# Altium schematic symbol library CAP_GRJ188C70J475KE11D.SchLib: 1 symbol
Pins are listed as number, name and electrical type; pins without a type are passive.

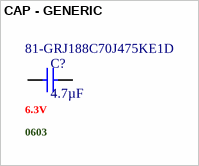
[diagram p0: symbol CAP - GENERIC]

## CAP - GENERIC
designator C?, comment 4.7µF  .Case/Package: 0603  .Voltage Rating (DC): 6.3V  Supplier Part Number 1: 81-GRJ188C70J475KE1D
GRJ Series 0603 6.3 V 4.7 uF ±10% X7S SMT Multilayer Ceramic Capacitor; Manufacturer: Murata; Manufacturer Part Number: GRJ188C70J475KE11D; Manufacturer Lifecycle Status: IN PRODUCTION; Supplier 1: Mouser; RoHS: Compliant; Category: Ceramic Capacitors; Stock 1: 17220; Pricing 1: 1=0,23, 10=0,096, 50=0,096, 100=0,073, 1000=0,054, 10000=0,042 (USD); Capacitance: 4.7µF; Case/Package: 0603; Case Code (Imperial): 0603; Case Code (Metric): 1608; Dielectric: X7S; Dielectric Material: Ceramic; Features: Soft Termination; Height: 800µm; Length: 1.6mm; Lifecycle Status: Production; Max Operating Temperature: 125°C; Min Operating Temperature: -55°C; Mount: Surface Mount; Number of Terminals: 2; REACH SVHC: Yes; Schedule B: 8532240020, 8532240020|8532240020, 8532240020|8532240020|8532240020, 8532240020|8532240020|8532240020|8532240020; Thickness: 800µm; Tolerance: 10%; Voltage Rating: 6.3V; Voltage Rating (DC): 6.3V; Width: 800µm; ComponentLink1URL: https://datasheet.octopart.com:443/GRJ188C70J475KE11D-Murata-datasheet-165579666.pdf?src-supplier=TME; ComponentLink1Description: https://datasheet.octopart.com:443/GRJ188C70J475KE11D-Murata-datasheet-165579666.pdf?src-supplier=TME; ComponentLink2URL: https://datasheet.octopart.com:443/GRJ188C70J475KE11D-Murata-datasheet-140671071.pdf?src-supplier=Ciiva; ComponentLink2Description: https://datasheet.octopart.com:443/GRJ188C70J475KE11D-Murata-datasheet-140671071.pdf?src-supplier=Ciiva; ComponentLink3URL: https://datasheet.octopart.com:443/GRJ188C70J475KE11D-Murata-datasheet-140671041.pdf?src-supplier=Ciiva; ComponentLink3Description: https://datasheet.octopart.com:443/GRJ188C70J475KE11D-Murata-datasheet-140671041.pdf?src-supplier=Ciiva; ComponentLink4URL: https://datasheet.octopart.com:443/GRJ188C70J475KE11D-Murata-datasheet-138730632.pdf?src-supplier=Ciiva; ComponentLink4Description: https://datasheet.octopart.com:443/GRJ188C70J475KE11D-Murata-datasheet-138730632.pdf?src-supplier=Ciiva; ComponentLink5URL: https://datasheet.octopart.com:443/GRJ188C70J475KE11D-Murata-datasheet-82944415.pdf?src-supplier=Future+Electronics; ComponentLink5Description: https://datasheet.octopart.com:443/GRJ188C70J475KE11D-Murata-datasheet-82944415.pdf?src-supplier=Future+Electronics; ComponentLink6URL: https://datasheet.octopart.com/GRJ188C70J475KE11D-Murata-datasheet-12515295.pdf; ComponentLink6Description: https://datasheet.octopart.com/GRJ188C70J475KE11D-Murata-datasheet-12515295.pdf; ComponentLink7URL: https://datasheet.octopart.com/GRJ188C70J475KE11D-Murata-datasheet-12510076.pdf; ComponentLink7Description: https://datasheet.octopart.com/GRJ188C70J475KE11D-Murata-datasheet-12510076.pdf; ComponentLink8URL: https://datasheet.octopart.com/GRJ188C70J475KE11D-Murata-datasheet-11978611.pdf; ComponentLink8Description: https://datasheet.octopart.com/GRJ188C70J475KE11D-Murata-datasheet-11978611.pdf; ComponentLink9URL: https://datasheet.octopart.com/GRJ188C70J475KE11D-Murata-datasheet-10025737.pdf; ComponentLink9Description: https://datasheet.octopart.com/GRJ188C70J475KE11D-Murata-datasheet-10025737.pdf; ComponentLink10URL: https://datasheet.octopart.com/GRJ188C70J475KE11D-Murata-datasheet-8819587.pdf; ComponentLink10Description: https://datasheet.octopart.com/GRJ188C70J475KE11D-Murata-datasheet-8819587.pdf; ComponentLink11URL: https://datasheet.octopart.com:443/GRJ188C70J475KE11D-Murata-datasheet-142295902.pdf?src-supplier=Arrow.cn; ComponentLink11Description: https://datasheet.octopart.com:443/GRJ188C70J475KE11D-Murata-datasheet-142295902.pdf?src-supplier=Arrow.cn; ComponentLink12URL: http://sigma.octopart.com:80/reach_statement/Murata-company-16.pdf?src-supplier=Compliance+Statements; ComponentLink12Description: http://sigma.octopart.com:80/reach_statement/Murata-company-16.pdf?src-supplier=Compliance+Statements
footprint C0603 - MURATA
pins: 1, 2